# EAGLE library part DAC-MCP4921 (library joakim)
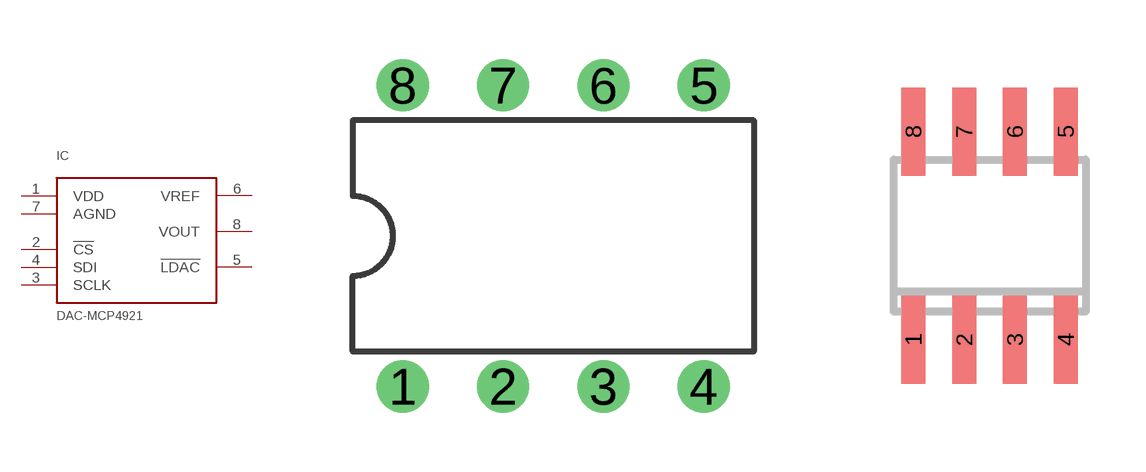
[diagram p56: symbol with the pads of DIL08J; footprints DIL08J, SO08J]

Designator prefix IC

## DAC-MCP4921D  [DIL08J]
1  VDD  pwr
2  !CS  in
3  SCLK  in
4  SDI  in
5  !LDAC  in
6  VREF
7  AGND  pwr
8  VOUT

## DAC-MCP4921S  [SO08J]
Pads as for DIL08J

## Footprint DIL08J (pad centres in mm)
Dual In Line Package
drill 0.813 pad 1.27: 1 -3.81,-3.81; 2 -1.27,-3.81; 3 1.27,-3.81; 4 3.81,-3.81; 5 3.81,3.81; 6 1.27,3.81; 7 -1.27,3.81; 8 -3.81,3.81

## Footprint SO08J (pad centres in mm)
Small Outline Package 8 NS Package M08A
smd 0.6 x 2.2: 1 -1.905,-2.6; 2 -0.635,-2.6; 3 0.635,-2.6; 4 1.905,-2.6; 5 1.905,2.6; 6 0.635,2.6; 7 -0.635,2.6; 8 -1.905,2.6